# Altium footprint library SOT95P275X110-6N.PcbLib: 1 footprints
Each footprint in its own frame and in the unit in brackets; x right, y up, seen from the top. Pads: shape width x height; smd on the part's side, far side on the other; paste and mask are expansions set on the pad; w line width, h text height; cw(c..) or ccw(c..) is an arc to the next point about the centre after c.
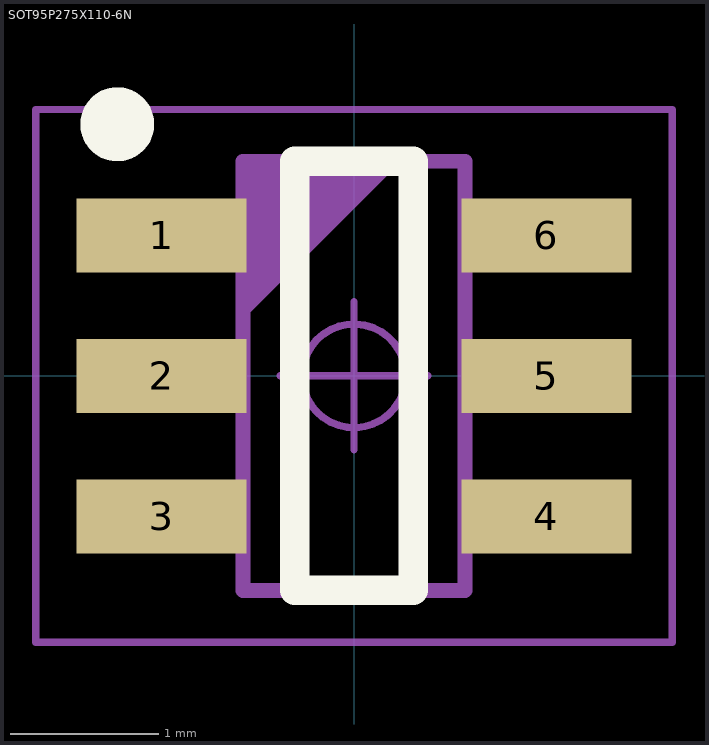
[diagram p0: the footprint, top view; thin cyan lines are the x and y axes]

## SOT95P275X110-6N [mm] "SOT, 0.95mm Pitch; 6 Pin, 1.50mm W X 2.90mm L X 1.10mm H Body, IPC Medium Density"
height 1.1
pads (6):
  rect 1.15x0.5 smd: 1(-1.3,0.95) 2(-1.3,0) 3(-1.3,-0.95) 4(1.3,-0.95) 5(1.3,0) 6(1.3,0.95)
Top Overlay:
  circle w0.25: c-1.6,1.7 r0.125
  lines w0.2: -0.4,-1.45 0.4,-1.45 0.4,1.45 -0.4,1.45 -0.4,-1.45
Mechanical 14:
  lines w0.1: -0.75,0.45 0.25,1.45 ; -0.75,0.55 0.15,1.45 ; -0.75,0.65 0.05,1.45 ; -0.75,0.75 -0.05,1.45 ; -0.75,0.85 -0.15,1.45 ; -0.75,0.95 -0.25,1.45 ; -0.75,1.05 -0.35,1.45 ; -0.75,1.15 -0.45,1.45 ; -0.75,1.25 -0.55,1.45 ; -0.75,1.35 -0.65,1.45 ; -0.75,-1.45 0.75,-1.45 0.75,1.45 -0.75,1.45 -0.75,-1.45
Mechanical 15:
  circle w0.05: c0,0 r0.35
  lines w0.05: -0.5,0 0.5,0 ; 0,-0.5 0,0.5 ; -2.15,-1.8 2.15,-1.8 2.15,1.8 -2.15,1.8 -2.15,-1.8
3D body "SOT95P275X110-6N.stp": height 1.1, standoff 0, extent -1.391,-1.55 1.391,1.55